# Altium schematic symbol library Relay.SchLib: 10 symbols
Pins are listed as number, name and electrical type; pins without a type are passive.

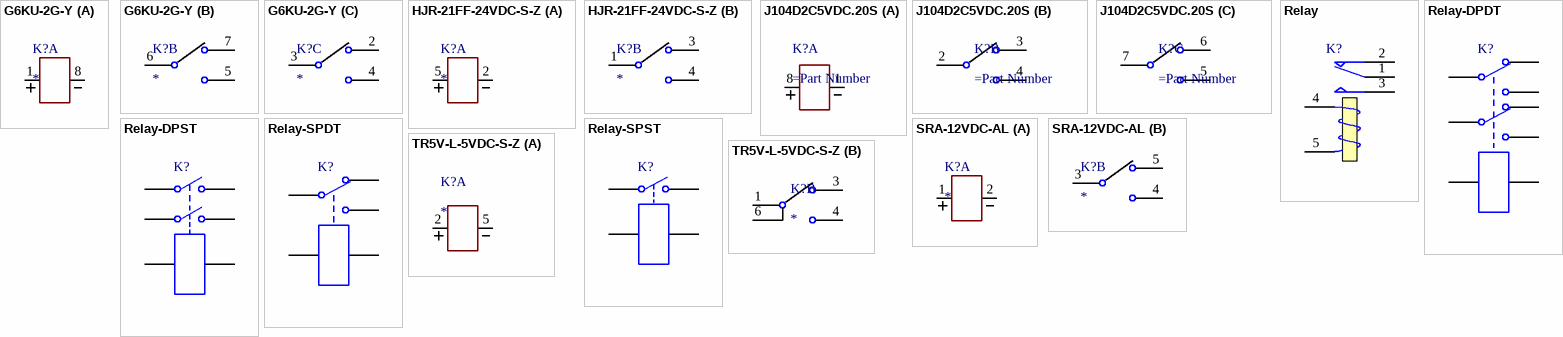
[diagram p0: symbols G6KU-2G-Y to TR5V-L-5VDC-S-Z]

## G6KU-2G-Y
designator K?
part A pins: 1, 8
part B pins: 5, 6, 7
part C pins: 2, 3, 4

## HJR-21FF-24VDC-S-Z
designator K?
part A pins: 2, 5
part B pins: 1, 3, 4

## J104D2C5VDC.20S
designator K?
Relay or Contactor; Manufacturer_Name: CITRelay; Manufacturer_Part_Number: 2449-J104D2C5VDC.20S-ND; Datasheet Link: https://www.citrelay.com/Catalog%20pages/RelayCatalog/J104D.pdf; Height: 11.42mm
footprint 2449J104D2C5VDC20SND
part A pins: 1 COIL_1, 8 COIL_2
part B pins: 2 COM_1, 3 NC_1, 4 NO_1
part C pins: 5 NO_2, 6 NC_2, 7 COM_2

## Relay
designator K?
SPDT Relay; Published: 8-Jun-2000; LatestRevisionDate: 17-Jul-2002; LatestRevisionNote: Re-released for DXP Platform.; PackageReference: MODULE5B; Publisher: Altium Limited
pins: 1 COM, 2 NC, 3 NO, 4 T1, 5 T2

## Relay-DPDT
designator K?
Dual-Pole Dual-Throw Relay; Published: 24-Mar-1999; LatestRevisionDate: 17-Jul-2002; LatestRevisionNote: Re-released for DXP Platform.; PackageReference: DIP-P8; Publisher: Altium Limited; PackageDescription: Relay; 8 Leads
pins: 1, 2, 3, 4, 5, 6, 7, 8

## Relay-DPST
designator K?
Dual-Pole Single-Throw Relay; Published: 24-Mar-1999; LatestRevisionDate: 17-Jul-2002; LatestRevisionNote: Re-released for DXP Platform.; PackageReference: MODULE6; Publisher: Altium Limited
pins: 1, 2, 3, 4, 5, 6

## Relay-SPDT
designator K?
Single-Pole Dual-Throw Relay; Published: 24-Mar-1999; LatestRevisionDate: 17-Jul-2002; LatestRevisionNote: Re-released for DXP Platform.; PackageReference: MODULE5B; Publisher: Altium Limited
pins: 1, 2, 3, 4, 5

## Relay-SPST
designator K?
Single-Pole Single-Throw Relay; Published: 24-Mar-1999; LatestRevisionDate: 17-Jul-2002; LatestRevisionNote: Re-released for DXP Platform.; PackageReference: MODULE4; Publisher: Altium Limited
pins: 1, 2, 3, 4

## SRA-12VDC-AL
designator K?
part A pins: 1, 2
part B pins: 3, 4, 5

## TR5V-L-5VDC-S-Z
designator K?
Relay or Contactor; Manufacturer_Name: TIANBO Electronics; Manufacturer_Part_Number: TR5VD5VSZ; Description: TR5VD5VSZ 5V SPDT 1A Tianbo Relay; Datasheet Link: https://www.rapidonline.com/tr5vd5vsz-5v-spdt-1a-tianbo-relay-60-0680; Height: 10mm
footprint TR5VD5VSZ
part A pins: 2 COIL_2, 5 COIL_1
part B pins: 1 COM_1, 3 NC_1, 4 NO_1, 6 COM_2